# Altium schematic symbol library SCH - MCU - STM32 - ST MICROELECTRONICS STM32L452CETX LQFP48.SchLib: 1 symbol
Pins are listed as number, name and electrical type; pins without a type are passive.

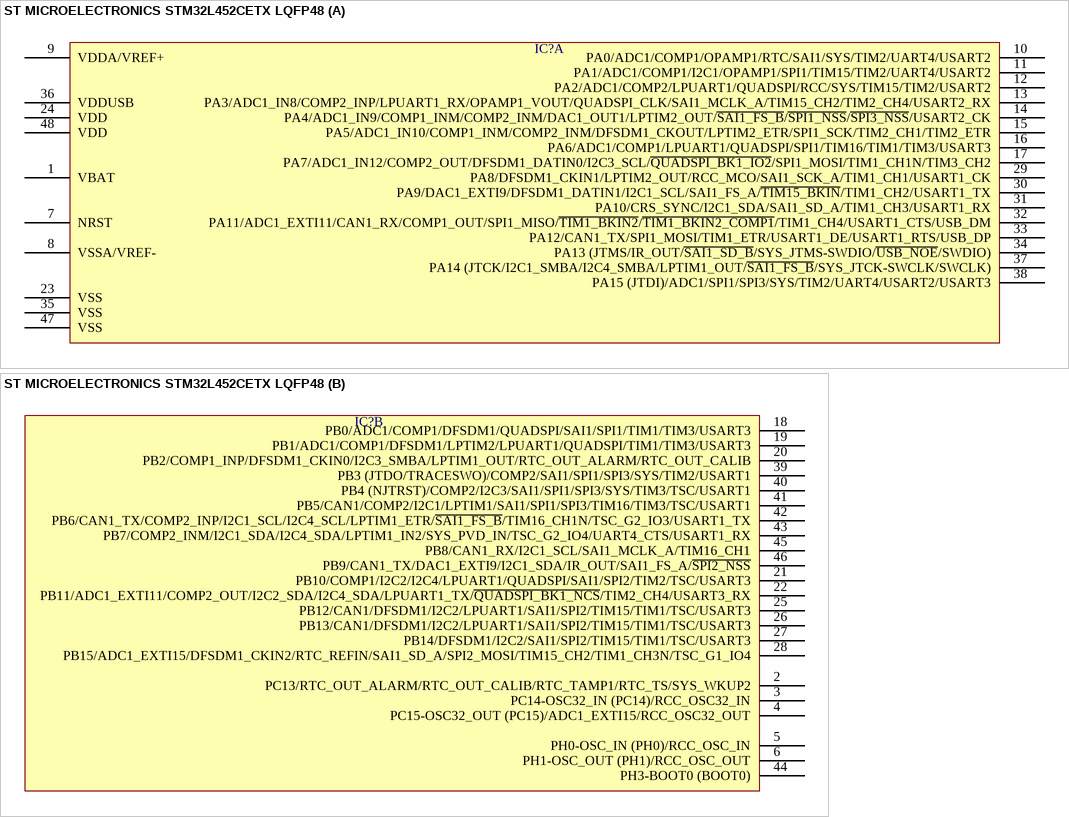
[diagram p0: symbol ST MICROELECTRONICS STM32L452CETX LQFP48]

## ST MICROELECTRONICS STM32L452CETX LQFP48
designator IC?  (value not drawn)
part A pins: 1 VBAT, 7 NRST, 8 VSSA/VREF-, 9 VDDA/VREF+, 10 PA0/ADC1/COMP1/OPAMP1/RTC/SAI1/SYS/TIM2/UART4/USART2, 11 PA1/ADC1/COMP1/I2C1/OPAMP1/SPI1/TIM15/TIM2/UART4/USART2, 12 PA2/ADC1/COMP2/LPUART1/QUADSPI/RCC/SYS/TIM15/TIM2/USART2, 13 PA3/ADC1_IN8/COMP2_INP/LPUART1_RX/OPAMP1_VOUT/QUADSPI_CLK/SAI1_MCLK_A/TIM15_CH2/TIM2_CH4/USART2_RX, 14 PA4/ADC1_IN9/COMP1_INM/COMP2_INM/DAC1_OUT1/LPTIM2_OUT/~{SAI1_FS_B}/~{SPI1_NSS}/~{SPI3_NSS}/USART2_CK, 15 PA5/ADC1_IN10/COMP1_INM/COMP2_INM/DFSDM1_CKOUT/LPTIM2_ETR/SPI1_SCK/TIM2_CH1/TIM2_ETR, 16 PA6/ADC1/COMP1/LPUART1/QUADSPI/SPI1/TIM16/TIM1/TIM3/USART3, 17 PA7/ADC1_IN12/COMP2_OUT/DFSDM1_DATIN0/I2C3_SCL/~{QUADSPI_BK1_IO2}/SPI1_MOSI/TIM1_CH1N/TIM3_CH2, 23 VSS, 24 VDD, 29 PA8/DFSDM1_CKIN1/LPTIM2_OUT/RCC_MCO/SAI1_SCK_A/TIM1_CH1/USART1_CK, 30 PA9/DAC1_EXTI9/DFSDM1_DATIN1/I2C1_SCL/SAI1_FS_A/~{TIM15_BKIN}/TIM1_CH2/USART1_TX, 31 PA10/CRS_SYNC/I2C1_SDA/SAI1_SD_A/TIM1_CH3/USART1_RX, 32 PA11/ADC1_EXTI11/CAN1_RX/COMP1_OUT/SPI1_MISO/~{TIM1_BKIN2}/~{TIM1_BKIN2_COMP1}/TIM1_CH4/USART1_CTS/USB_DM, 33 PA12/CAN1_TX/SPI1_MOSI/TIM1_ETR/USART1_DE/USART1_RTS/USB_DP, 34 PA13 (JTMS/IR_OUT/~{SAI1_SD_B}/SYS_JTMS-SWDIO/~{USB_NOE}/SWDIO), 35 VSS, 36 VDDUSB, 37 PA14 (JTCK/I2C1_SMBA/I2C4_SMBA/LPTIM1_OUT/~{SAI1_FS_B}/SYS_JTCK-SWCLK/SWCLK), 38 PA15 (JTDI)/ADC1/SPI1/SPI3/SYS/TIM2/UART4/USART2/USART3, 47 VSS, 48 VDD
part B pins: 2 PC13/RTC_OUT_ALARM/RTC_OUT_CALIB/RTC_TAMP1/RTC_TS/SYS_WKUP2, 3 PC14-OSC32_IN (PC14)/RCC_OSC32_IN, 4 PC15-OSC32_OUT (PC15)/ADC1_EXTI15/RCC_OSC32_OUT, 5 PH0-OSC_IN (PH0)/RCC_OSC_IN, 6 PH1-OSC_OUT (PH1)/RCC_OSC_OUT, 18 PB0/ADC1/COMP1/DFSDM1/QUADSPI/SAI1/SPI1/TIM1/TIM3/USART3, 19 PB1/ADC1/COMP1/DFSDM1/LPTIM2/LPUART1/QUADSPI/TIM1/TIM3/USART3, 20 PB2/COMP1_INP/DFSDM1_CKIN0/I2C3_SMBA/LPTIM1_OUT/RTC_OUT_ALARM/RTC_OUT_CALIB, 21 PB10/COMP1/I2C2/I2C4/LPUART1/QUADSPI/SAI1/SPI2/TIM2/TSC/USART3, 22 PB11/ADC1_EXTI11/COMP2_OUT/I2C2_SDA/I2C4_SDA/LPUART1_TX/~{QUADSPI_BK1_NCS}/TIM2_CH4/USART3_RX, 25 PB12/CAN1/DFSDM1/I2C2/LPUART1/SAI1/SPI2/TIM15/TIM1/TSC/USART3, 26 PB13/CAN1/DFSDM1/I2C2/LPUART1/SAI1/SPI2/TIM15/TIM1/TSC/USART3, 27 PB14/DFSDM1/I2C2/SAI1/SPI2/TIM15/TIM1/TSC/USART3, 28 PB15/ADC1_EXTI15/DFSDM1_CKIN2/RTC_REFIN/SAI1_SD_A/SPI2_MOSI/TIM15_CH2/TIM1_CH3N/TSC_G1_IO4, 39 PB3 (JTDO/TRACESWO)/COMP2/SAI1/SPI1/SPI3/SYS/TIM2/USART1, 40 PB4 (NJTRST)/COMP2/I2C3/SAI1/SPI1/SPI3/SYS/TIM3/TSC/USART1, 41 PB5/CAN1/COMP2/I2C1/LPTIM1/SAI1/SPI1/SPI3/TIM16/TIM3/TSC/USART1, 42 PB6/CAN1_TX/COMP2_INP/I2C1_SCL/I2C4_SCL/LPTIM1_ETR/~{SAI1_FS_B}/TIM16_CH1N/TSC_G2_IO3/USART1_TX, 43 PB7/COMP2_INM/I2C1_SDA/I2C4_SDA/LPTIM1_IN2/SYS_PVD_IN/TSC_G2_IO4/UART4_CTS/USART1_RX, 44 PH3-BOOT0 (BOOT0), 45 PB8/CAN1_RX/I2C1_SCL/SAI1_MCLK_A/TIM16_CH1, 46 PB9/CAN1_TX/DAC1_EXTI9/I2C1_SDA/IR_OUT/SAI1_FS_A/~{SPI2_NSS}